# Altium footprint library ESD410.PcbLib: 3 footprints
Each footprint in its own frame and in the unit in brackets; x right, y up, seen from the top. Pads: shape width x height; smd on the part's side, far side on the other; paste and mask are expansions set on the pad; w line width, h text height; cw(c..) or ccw(c..) is an arc to the next point about the centre after c.
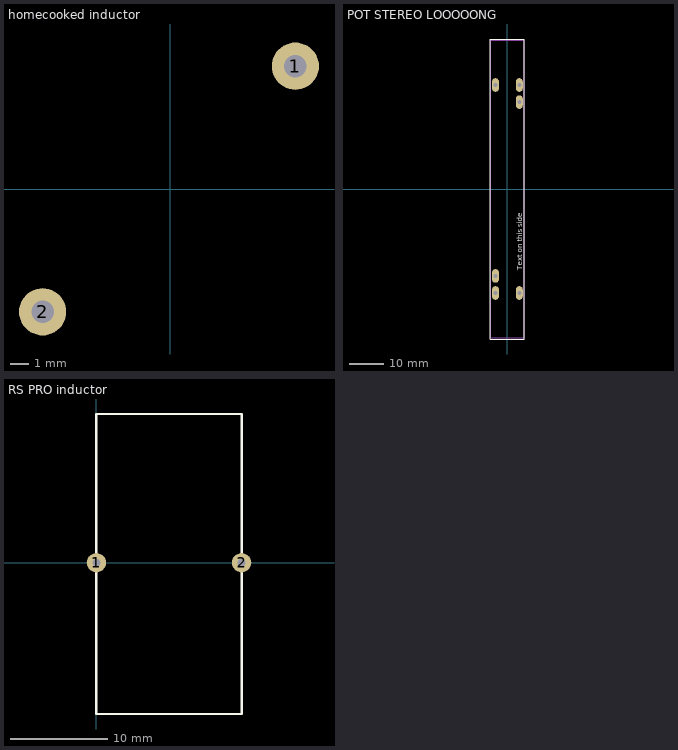
[diagram p0: the footprints below, top view; thin cyan lines are the x and y axes]

## homecooked inductor [mil]
pads (2):
  round 100 hole 47.24: 1(265,260) 2(-270,-260)
3D body "markus_vil_gerne_have_stepfil.step": height 625.05, standoff -196.85, extent -408.74,-465 418.03,401.14

## POT STEREO LOOOOONG [mm]
pads (6):
  oval 2x4 hole 1.2: 1(-3.5,-30.5) 2(-3.5,30.5) 3(-3.5,-25.5) 4(3.5,-30.5) 5(3.5,30.5) 6(3.5,25.5)
Top Overlay:
  lines w0.254: -5,-44 5,-44 5,44 -5,44 -5,-44
  text "Text on this side" at 4.318,-23.876 h1.52
Mechanical 1:
  lines w0.254: -4.95,-43.6 4.95,-43.6 4.95,43.6 -4.95,43.6 -4.95,-43.6

## RS PRO inductor [mm]
pads (2):
  round 2 hole 0.8: 1(0,0) 2(15,0)
Top Overlay:
  lines w0.254: 0,-15.633 15,-15.633 15,15.367 0,15.367 0,-15.633